# Altium schematic symbol library IM03GR.SchLib: 1 symbol
Pins are listed as number, name and electrical type; pins without a type are passive.

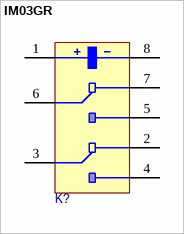
[diagram p0: symbol IM03GR]

## IM03GR
designator K?
pins: 1, 2, 3, 4, 5, 6, 7, 8